# EAGLE library part STM32F405RGT6 (library LARS_409_MK)
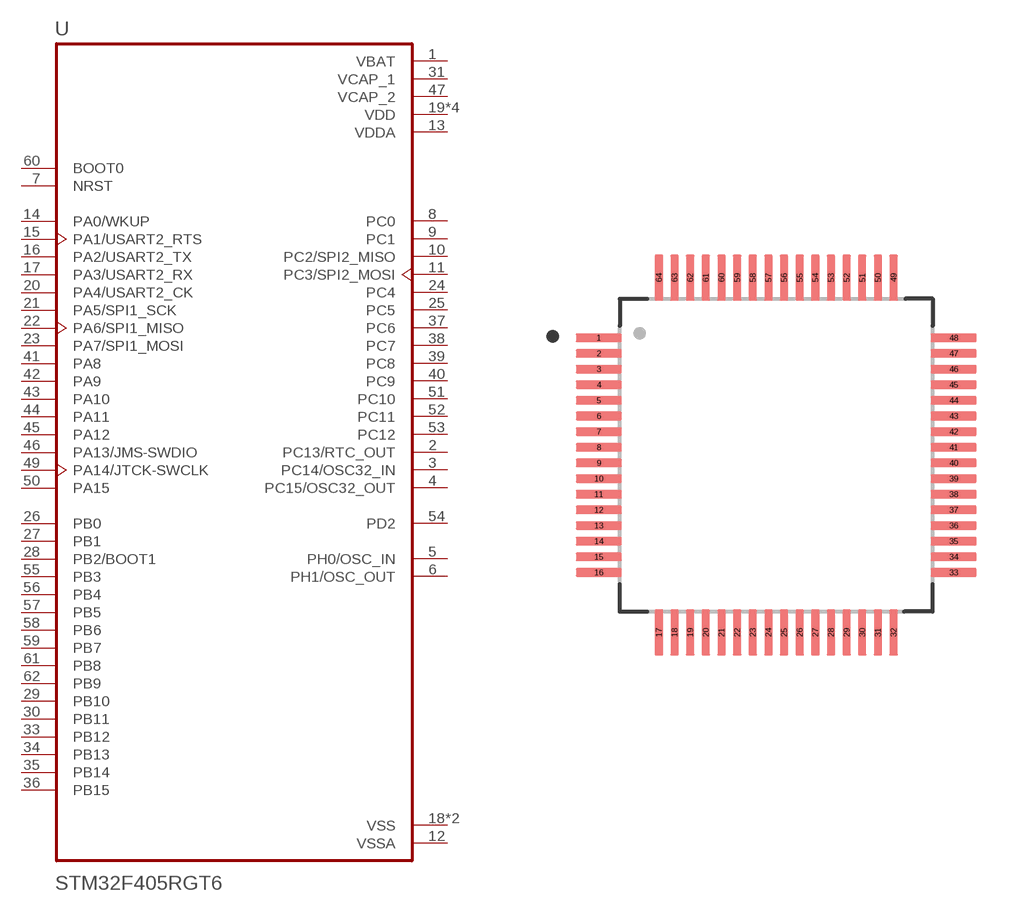
[diagram p2: symbol with the pads of QFP50P1200X1200X160-64N; footprint QFP50P1200X1200X160-64N]

Designator prefix U

## STM32F405RGT6  [QFP50P1200X1200X160-64N]
1  VBAT  pwr
2  PC13/RTC_OUT
3  PC14/OSC32_IN
4  PC15/OSC32_OUT
5  PH0/OSC_IN
6  PH1/OSC_OUT
7  NRST
8  PC0
9  PC1
10  PC2/SPI2_MISO
11  PC3/SPI2_MOSI
12  VSSA  pwr
13  VDDA  pwr
14  PA0/WKUP
15  PA1/USART2_RTS
16  PA2/USART2_TX
17  PA3/USART2_RX
18  VSS  pwr
19  VDD  pwr
20  PA4/USART2_CK
21  PA5/SPI1_SCK
22  PA6/SPI1_MISO
23  PA7/SPI1_MOSI
24  PC4
25  PC5
26  PB0
27  PB1
28  PB2/BOOT1
29  PB10
30  PB11
31  VCAP_1  pwr
32  VDD  pwr
33  PB12
34  PB13
35  PB14
36  PB15
37  PC6
38  PC7
39  PC8
40  PC9
41  PA8
42  PA9
43  PA10
44  PA11
45  PA12
46  PA13/JMS-SWDIO
47  VCAP_2  pwr
48  VDD  pwr
49  PA14/JTCK-SWCLK
50  PA15
51  PC10
52  PC11
53  PC12
54  PD2
55  PB3
56  PB4
57  PB5
58  PB6
59  PB7
60  BOOT0
61  PB8
62  PB9
63  VSS  pwr
64  VDD  pwr

## Footprint QFP50P1200X1200X160-64N (pad centres in mm)
smd 1.47 x 0.28: 1 -5.4,3.75; 2 -5.4,3.25; 3 -5.4,2.75; 4 -5.4,2.25; 5 -5.4,1.75; 6 -5.4,1.25; 7 -5.4,0.75; 8 -5.4,0.25; 9 -5.4,-0.25; 10 -5.4,-0.75; 11 -5.4,-1.25; 12 -5.4,-1.75; 13 -5.4,-2.25; 14 -5.4,-2.75; 15 -5.4,-3.25; 16 -5.4,-3.75; 33 5.94,-3.75; 34 5.94,-3.25; 35 5.94,-2.75; 36 5.94,-2.25; 37 5.94,-1.75; 38 5.94,-1.25; 39 5.94,-0.75; 40 5.94,-0.25; 41 5.94,0.25; 42 5.94,0.75; 43 5.94,1.25; 44 5.94,1.75; 45 5.94,2.25; 46 5.94,2.75; 47 5.94,3.25; 48 5.94,3.75
smd 0.28 x 1.47: 17 -3.48,-5.67; 18 -2.98,-5.67; 19 -2.48,-5.67; 20 -1.98,-5.67; 21 -1.48,-5.67; 22 -0.98,-5.67; 23 -0.48,-5.67; 24 0.02,-5.67; 25 0.52,-5.67; 26 1.02,-5.67; 27 1.52,-5.67; 28 2.02,-5.67; 29 2.52,-5.67; 30 3.02,-5.67; 31 3.52,-5.67; 32 4.02,-5.67; 49 4.02,5.67; 50 3.52,5.67; 51 3.02,5.67; 52 2.52,5.67; 53 2.02,5.67; 54 1.52,5.67; 55 1.02,5.67; 56 0.52,5.67; 57 0.02,5.67; 58 -0.48,5.67; 59 -0.98,5.67; 60 -1.48,5.67; 61 -1.98,5.67; 62 -2.48,5.67; 63 -2.98,5.67; 64 -3.48,5.67